# Altium schematic symbol library TPS22976NDPUR.SchLib: 1 symbol
Pins are listed as number, name and electrical type; pins without a type are passive.

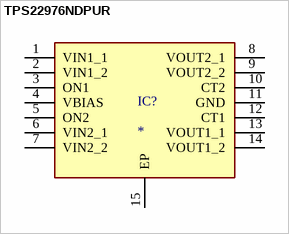
[diagram p0: symbol TPS22976NDPUR]

## TPS22976NDPUR
designator IC?
Integrated Circuit; Manufacturer_Name: Texas Instruments; Manufacturer_Part_Number: TPS22976NDPUR; Description: 5.5V; Datasheet Link: http://www.ti.com/lit/gpn/tps22976; Height: 0.85mm; Mouser Part Number: 595-TPS22976NDPUR; Mouser Price/Stock: https://www.mouser.co.uk/ProductDetail/Texas-Instruments/TPS22976NDPUR?qs=0C8XhJW8e4qFkPP9HIbWaA%3D%3D; Arrow Part Number: TPS22976NDPUR; Arrow Price/Stock: https://www.arrow.com/en/products/tps22976ndpur/texas-instruments?region=nac
footprint TI_DPU-PACKAGE_14-PIN-WSON (TPS22968)
pins: 1 VIN1_1, 2 VIN1_2, 3 ON1, 4 VBIAS, 5 ON2, 6 VIN2_1, 7 VIN2_2, 8 VOUT2_1, 9 VOUT2_2, 10 CT2, 11 GND, 12 CT1, 13 VOUT1_1, 14 VOUT1_2, 15 EP